# EAGLE library part RT7258GSP (library MRDT-PowerICs)
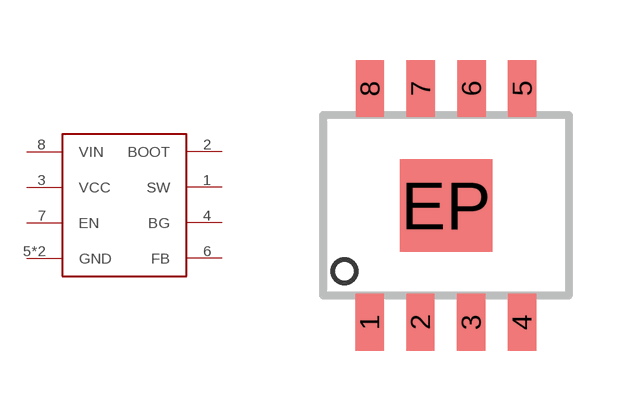
[diagram p2: symbol with the pads of SOP08_W_EP; footprint SOP08_W_EP]

Designator prefix -

## RT7258GSP  [SOP08_W_EP]
1  SW
2  BOOT
3  VCC
4  BG
5  GND
6  FB
7  EN
8  VIN
EP  GND

## Footprint SOP08_W_EP (pad centres in mm)
SMALL OUTLINE PACKAGE
smd 0.711 x 1.422: 1 -1.909,-2.921; 2 -0.638,-2.921; 3 0.631,-2.921; 4 1.901,-2.921; 5 1.909,2.921; 6 0.638,2.921; 7 -0.631,2.921; 8 -1.901,2.921
smd 2.311 x 2.311: EP 0,0